# Altium integrated library FV1Buddy.IntLib: 2 symbols
Pins are listed as number, name and electrical type; pins without a type are passive.

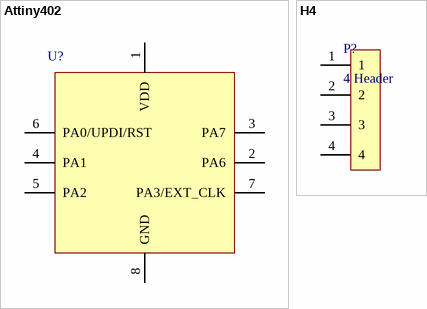
[diagram p0: symbols Attiny402 to H4]

## Attiny402
designator U?  (value not drawn)
footprint SOIC127P600X175-8N (SOIC, 8-Leads, Body 4,90x3,90mm, Pitch 1,27mm, IPC Medium Density)
footprint SOIC127P600X175-8L (SOIC, 8-Leads, Body 4,90x3,90mm, Pitch 1,27mm, IPC High Density)
pins: 1 VDD, 2 PA6, 3 PA7, 4 PA1, 5 PA2, 6 PA0/UPDI/RST, 7 PA3/EXT_CLK, 8 GND

## H4
designator P?, comment 4 Header
footprint H4
pins: 1, 2, 3, 4